# EAGLE library part DC-DC-CONVERTER (library Gibbot v4)
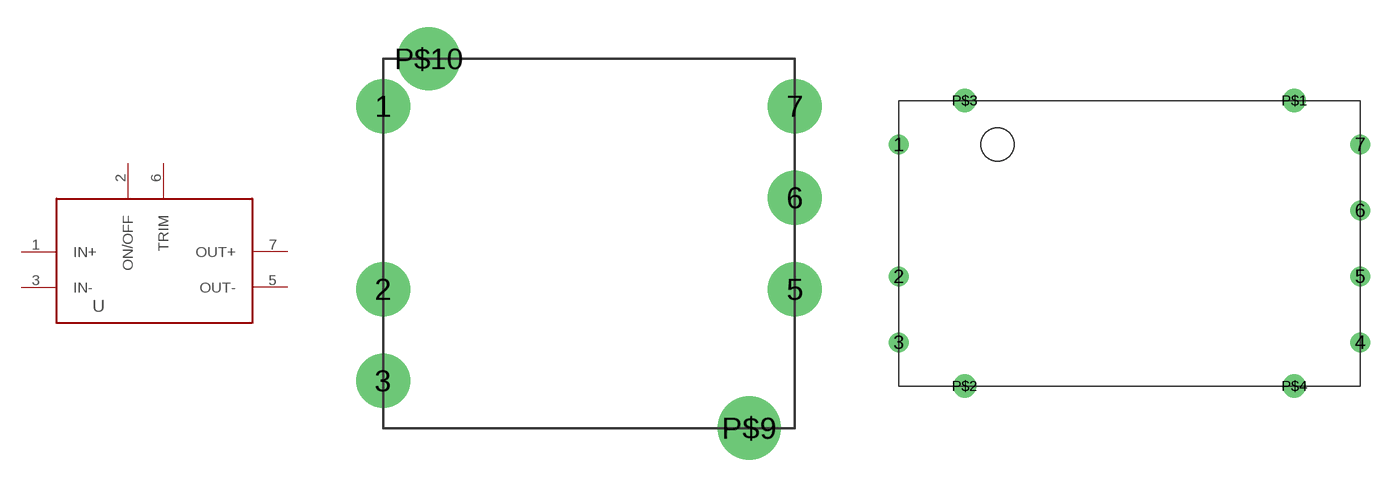
[diagram p13: symbol with the pads of CC6-2405SF-E; footprints CC6-2405SF-E, CC10-2405SF-E]

Designator prefix -

## DC-DC-CONVERTER1.2A  [CC6-2405SF-E]
1  IN+
2  ON/OFF
3  IN-
5  OUT-
6  TRIM
7  OUT+

## DC-DC-CONVERTER2A  [CC10-2405SF-E]
Pads as for CC6-2405SF-E

## Footprint CC6-2405SF-E (pad centres in mm)
drill 2 round: 1 -11.43,7.62; 2 -11.43,-2.54; 3 -11.43,-7.62; 5 11.43,-2.54; 6 11.43,2.54; 7 11.43,7.62
drill 2.5 pad 2.54 round: P$9 8.89,-10.25; P$10 -8.89,10.25

## Footprint CC10-2405SF-E (pad centres in mm)
drill 1 round: 1 -17.78,7.62; 2 -17.78,-2.54; 3 -17.78,-7.62; 4 17.78,-7.62; 5 17.78,-2.54; 6 17.78,2.54; 7 17.78,7.62
drill 1.2 round: P$1 12.7,11; P$2 -12.7,-11; P$3 -12.7,11; P$4 12.7,-11